# EAGLE library part XC2C256/144 (library Xilinx)
XC2C256 CoolRunner-II CPLD (144 pin packages)
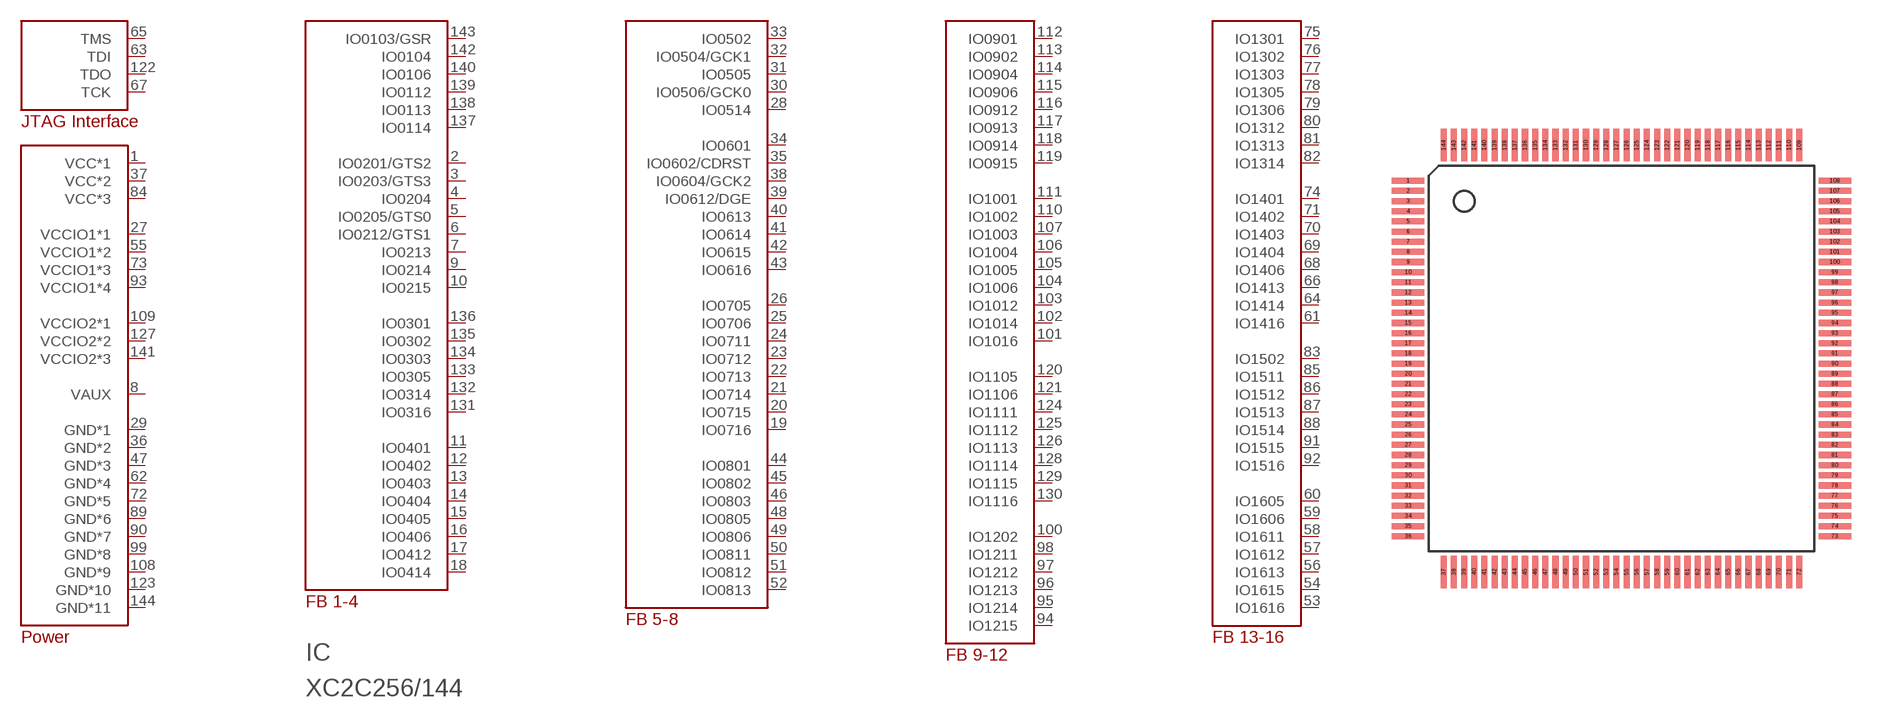
[diagram p11: symbol with the pads of TQ144; footprint TQ144]

Designator prefix IC

## XC2C256/144-TQ144  [TQ144]
1  VCC*1  pwr
2  IO0201/GTS2
3  IO0203/GTS3
4  IO0204
5  IO0205/GTS0
6  IO0212/GTS1
7  IO0213
8  VAUX  pwr
9  IO0214
10  IO0215
11  IO0401
12  IO0402
13  IO0403
14  IO0404
15  IO0405
16  IO0406
17  IO0412
18  IO0414
19  IO0716
20  IO0715
21  IO0714
22  IO0713
23  IO0712
24  IO0711
25  IO0706
26  IO0705
27  VCCIO1*1  pwr
28  IO0514
29  GND*1  pwr
30  IO0506/GCK0
31  IO0505
32  IO0504/GCK1
33  IO0502
34  IO0601
35  IO0602/CDRST
36  GND*2  pwr
37  VCC*2  pwr
38  IO0604/GCK2
39  IO0612/DGE
40  IO0613
41  IO0614
42  IO0615
43  IO0616
44  IO0801
45  IO0802
46  IO0803
47  GND*3  pwr
48  IO0805
49  IO0806
50  IO0811
51  IO0812
52  IO0813
53  IO1616
54  IO1615
55  VCCIO1*2  pwr
56  IO1613
57  IO1612
58  IO1611
59  IO1606
60  IO1605
61  IO1416
62  GND*4  pwr
63  TDI
64  IO1414
65  TMS
66  IO1413
67  TCK
68  IO1406
69  IO1404
70  IO1403
71  IO1402
72  GND*5  pwr
73  VCCIO1*3  pwr
74  IO1401
75  IO1301
76  IO1302
77  IO1303
78  IO1305
79  IO1306
80  IO1312
81  IO1313
82  IO1314
83  IO1502
84  VCC*3  pwr
85  IO1511
86  IO1512
87  IO1513
88  IO1514
89  GND*6  pwr
90  GND*7  pwr
91  IO1515
92  IO1516
93  VCCIO1*4  pwr
94  IO1215
95  IO1214
96  IO1213
97  IO1212
98  IO1211
99  GND*8  pwr
100  IO1202
101  IO1016
102  IO1014
103  IO1012
104  IO1006
105  IO1005
106  IO1004
107  IO1003
108  GND*9  pwr
109  VCCIO2*1  pwr
110  IO1002
111  IO1001
112  IO0901
113  IO0902
114  IO0904
115  IO0906
116  IO0912
117  IO0913
118  IO0914
119  IO0915
120  IO1105
121  IO1106
122  TDO
123  GND*10  pwr
124  IO1111
125  IO1112
126  IO1113
127  VCCIO2*2  pwr
128  IO1114
129  IO1115
130  IO1116
131  IO0316
132  IO0314
133  IO0305
134  IO0303
135  IO0302
136  IO0301
137  IO0114
138  IO0113
139  IO0112
140  IO0106
141  VCCIO2*3  pwr
142  IO0104
143  IO0103/GSR
144  GND*11  pwr

## Footprint TQ144 (pad centres in mm)
smd 1.6 x 0.3: 1 -10.5,8.75; 2 -10.5,8.25; 3 -10.5,7.75; 4 -10.5,7.25; 5 -10.5,6.75; 6 -10.5,6.25; 7 -10.5,5.75; 8 -10.5,5.25; 9 -10.5,4.75; 10 -10.5,4.25; 11 -10.5,3.75; 12 -10.5,3.25; 13 -10.5,2.75; 14 -10.5,2.25; 15 -10.5,1.75; 16 -10.5,1.25; 17 -10.5,0.75; 18 -10.5,0.25; 19 -10.5,-0.25; 20 -10.5,-0.75; 21 -10.5,-1.25; 22 -10.5,-1.75; 23 -10.5,-2.25; 24 -10.5,-2.75; 25 -10.5,-3.25; 26 -10.5,-3.75; 27 -10.5,-4.25; 28 -10.5,-4.75; 29 -10.5,-5.25; 30 -10.5,-5.75; 31 -10.5,-6.25; 32 -10.5,-6.75; 33 -10.5,-7.25; 34 -10.5,-7.75; 35 -10.5,-8.25; 36 -10.5,-8.75; 73 10.5,-8.75; 74 10.5,-8.25; 75 10.5,-7.75; 76 10.5,-7.25; 77 10.5,-6.75; 78 10.5,-6.25; 79 10.5,-5.75; 80 10.5,-5.25; 81 10.5,-4.75; 82 10.5,-4.25; 83 10.5,-3.75; 84 10.5,-3.25; 85 10.5,-2.75; 86 10.5,-2.25; 87 10.5,-1.75; 88 10.5,-1.25; 89 10.5,-0.75; 90 10.5,-0.25; 91 10.5,0.25; 92 10.5,0.75; 93 10.5,1.25; 94 10.5,1.75; 95 10.5,2.25; 96 10.5,2.75; 97 10.5,3.25; 98 10.5,3.75; 99 10.5,4.25; 100 10.5,4.75; 101 10.5,5.25; 102 10.5,5.75; 103 10.5,6.25; 104 10.5,6.75; 105 10.5,7.25; 106 10.5,7.75; 107 10.5,8.25; 108 10.5,8.75
smd 0.3 x 1.6: 37 -8.75,-10.5; 38 -8.25,-10.5; 39 -7.75,-10.5; 40 -7.25,-10.5; 41 -6.75,-10.5; 42 -6.25,-10.5; 43 -5.75,-10.5; 44 -5.25,-10.5; 45 -4.75,-10.5; 46 -4.25,-10.5; 47 -3.75,-10.5; 48 -3.25,-10.5; 49 -2.75,-10.5; 50 -2.25,-10.5; 51 -1.75,-10.5; 52 -1.25,-10.5; 53 -0.75,-10.5; 54 -0.25,-10.5; 55 0.25,-10.5; 56 0.75,-10.5; 57 1.25,-10.5; 58 1.75,-10.5; 59 2.25,-10.5; 60 2.75,-10.5; 61 3.25,-10.5; 62 3.75,-10.5; 63 4.25,-10.5; 64 4.75,-10.5; 65 5.25,-10.5; 66 5.75,-10.5; 67 6.25,-10.5; 68 6.75,-10.5; 69 7.25,-10.5; 70 7.75,-10.5; 71 8.25,-10.5; 72 8.75,-10.5; 109 8.75,10.5; 110 8.25,10.5; 111 7.75,10.5; 112 7.25,10.5; 113 6.75,10.5; 114 6.25,10.5; 115 5.75,10.5; 116 5.25,10.5; 117 4.75,10.5; 118 4.25,10.5; 119 3.75,10.5; 120 3.25,10.5; 121 2.75,10.5; 122 2.25,10.5; 123 1.75,10.5; 124 1.25,10.5; 125 0.75,10.5; 126 0.25,10.5; 127 -0.25,10.5; 128 -0.75,10.5; 129 -1.25,10.5; 130 -1.75,10.5; 131 -2.25,10.5; 132 -2.75,10.5; 133 -3.25,10.5; 134 -3.75,10.5; 135 -4.25,10.5; 136 -4.75,10.5; 137 -5.25,10.5; 138 -5.75,10.5; 139 -6.25,10.5; 140 -6.75,10.5; 141 -7.25,10.5; 142 -7.75,10.5; 143 -8.25,10.5; 144 -8.75,10.5